# Altium footprint library PCB - LEADED - SOP65P490X110-8N.PCBLIB: 1 footprints
Each footprint in its own frame and in the unit in brackets; x right, y up, seen from the top. Pads: shape width x height; smd on the part's side, far side on the other; paste and mask are expansions set on the pad; w line width, h text height; cw(c..) or ccw(c..) is an arc to the next point about the centre after c.
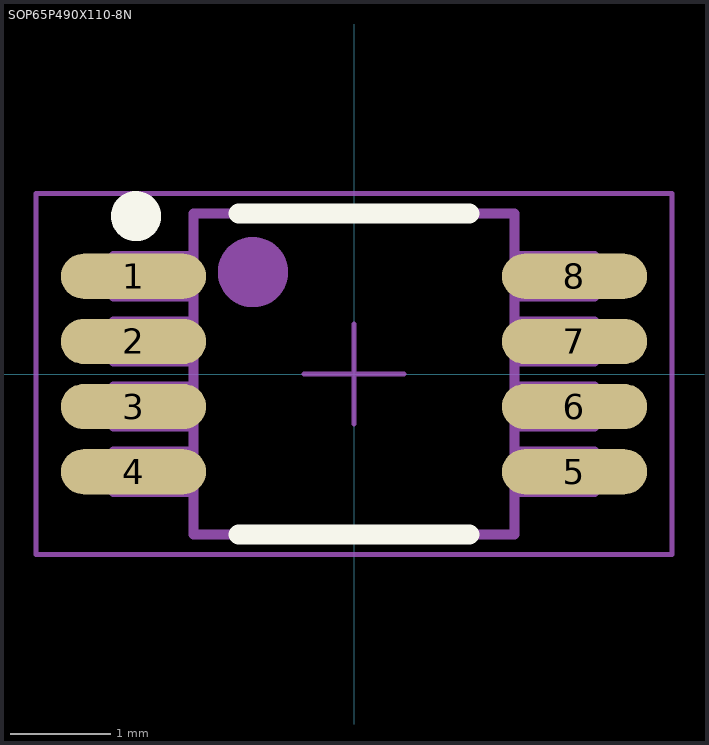
[diagram p0: the footprint, top view; thin cyan lines are the x and y axes]

## SOP65P490X110-8N [mm] "TSOP, 8-Leads, Body 3,1x3,1mm (max), Pitch 0,65mm, IPC Medium Density"
height 1.1
pads (8):
  oval 1.45x0.45 smd: 1(-2.2,0.975) 2(-2.2,0.325) 3(-2.2,-0.325) 4(-2.2,-0.975) 5(2.2,-0.975) 6(2.2,-0.325) 7(2.2,0.325) 8(2.2,0.975)
Top Overlay:
  circle w0.25: c-2.175,1.575 r0.125
  lines w0.2: -1.15,-1.6 1.15,-1.6 ; -1.15,1.6 1.15,1.6
Top Assembly:
  circle w0.5: c-1.008,1.016 r0.1
  lines w0.1: -1.6,-1.175 -2.4,-1.175 -2.4,-0.775 -1.6,-0.775 ; -1.6,-0.525 -2.4,-0.525 -2.4,-0.125 -1.6,-0.125 ; -1.6,0.125 -2.4,0.125 -2.4,0.525 -1.6,0.525 ; -1.6,0.775 -2.4,0.775 -2.4,1.175 -1.6,1.175 ; 1.6,-1.175 2.4,-1.175 2.4,-0.775 1.6,-0.775 ; 1.6,-0.525 2.4,-0.525 2.4,-0.125 1.6,-0.125 ; 1.6,0.125 2.4,0.125 2.4,0.525 1.6,0.525 ; 1.6,0.775 2.4,0.775 2.4,1.175 1.6,1.175 ; -1.6,-1.6 -1.6,1.6 1.6,1.6 1.6,-1.6 -1.6,-1.6
Top Courtyard:
  lines w0.05: -3.175,-1.8 3.175,-1.8 3.175,1.8 -3.175,1.8 -3.175,-1.8
Top Designator:
  text ".Designator" at -0.635,-0.254 h0.2
Top Component Center:
  lines w0.05: -0.5,0 0.5,0 ; 0,-0.5 0,0.5
3D body "User Library-msop-8.STEP": height 1.15, standoff 0, extent -2.45,-1.5 2.45,1.5